# Altium schematic symbol library res1210.SchLib: 7 symbols
Pins are listed as number, name and electrical type; pins without a type are passive.

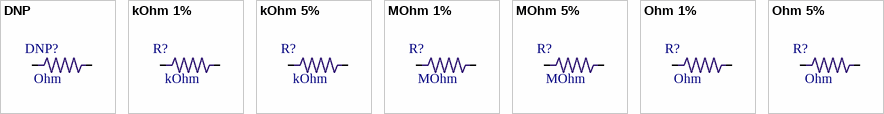
[diagram p0: symbols DNP to Ohm 5%]

## DNP
designator DNP?  value Ohm  (hidden comment: *)
Tolerance: 1%; Type: 1210
footprint RESC3225X70N
pins: 1, 2

## kOhm 1%
designator R?  value kOhm
Tolerance: 1%; Type: 1210
footprint RESC3225X70N
pins: 1, 2

## kOhm 5%
designator R?  value kOhm
Tolerance: 5%; Type: 1210
footprint RESC3225X70N
pins: 1, 2

## MOhm 1%
designator R?  value MOhm  (hidden comment: *)
Tolerance: 1%; Type: 1210
footprint RESC3225X70N
pins: 1, 2

## MOhm 5%
designator R?  value MOhm
Tolerance: 5%; Type: 1210
footprint RESC3225X70N
pins: 1, 2

## Ohm 1%
designator R?  value Ohm  (hidden comment: *)
Tolerance: 1%; Type: 1210
footprint RESC3225X70N
pins: 1, 2

## Ohm 5%
designator R?  value Ohm
Tolerance: 5%; Type: 1210
footprint RESC3225X70N
pins: 1, 2